# Altium schematic symbol library ZC323200.SchLib: 1 symbol
Pins are listed as number, name and electrical type; pins without a type are passive.

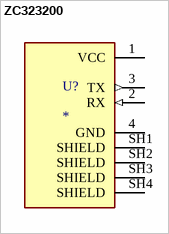
[diagram p0: symbol ZC323200]

## ZC323200
designator U?
GY-NEO6MV2 GY-GPS6MV2 NEO-6M GPS Module with Flight Control APM2.5; MF: YKS; MP: ZC323200; SnapEDA_Link: https://www.snapeda.com/parts/ZC323200/YKS/view-part/?ref=snap; Package: None; Value: *; Check_prices: https://www.snapeda.com/parts/ZC323200/YKS/view-part/?ref=eda
footprint XCVR_ZC323200
pins: 1 VCC (power), 2 RX (in), 3 TX (out), 4 GND (power), SH1 SHIELD, SH2 SHIELD, SH3 SHIELD, SH4 SHIELD